# Altium schematic symbol library can_bridge.SchLib: 4 symbols
Pins are listed as number, name and electrical type; pins without a type are passive.

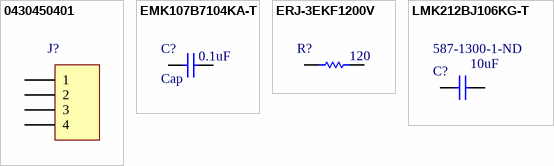
[diagram p0: symbols 0430450401 to LMK212BJ106KG-T]

## 0430450401
designator J?  (value not drawn)
HEADER R/A 4POS DUAL GOLD T/H; Supplier 1: Digi-Key; Supplier Part Number 1: WM3248-ND
footprint Molex_0430450401 (HEADER R/A 4POS DUAL TIN SMD)
pins: 1, 2, 3, 4

## EMK107B7104KA-T
designator C?, comment Cap  Capacitance: 0.1uF
CAP CER 0.1UF 16V X7R 0603; Supplier 1: Digi-Key; Supplier Part Number 1: 587-1240-1-ND
footprint CAP_0603
pins: 1, 2

## ERJ-3EKF1200V
designator R?, comment Resistance: 120  (hidden comment: Res1)
RES SMD 120 OHM 1% 1/10W 0603; Supplier 1: Digi-Key; Supplier Part Number 1: P120HCT-ND
pins: 1, 2

## LMK212BJ106KG-T
designator C?, comment Capacitance: 10uF  Supplier Part Number 1: 587-1300-1-ND  (hidden comment: Cap)
CAP CER 10UF 10V X5R 0805; Supplier 1: Digi-Key
footprint CAP_0805
pins: 1, 2